# Altium schematic symbol library A_Connector.SchLib: 27 symbols
Pins are listed as number, name and electrical type; pins without a type are passive.

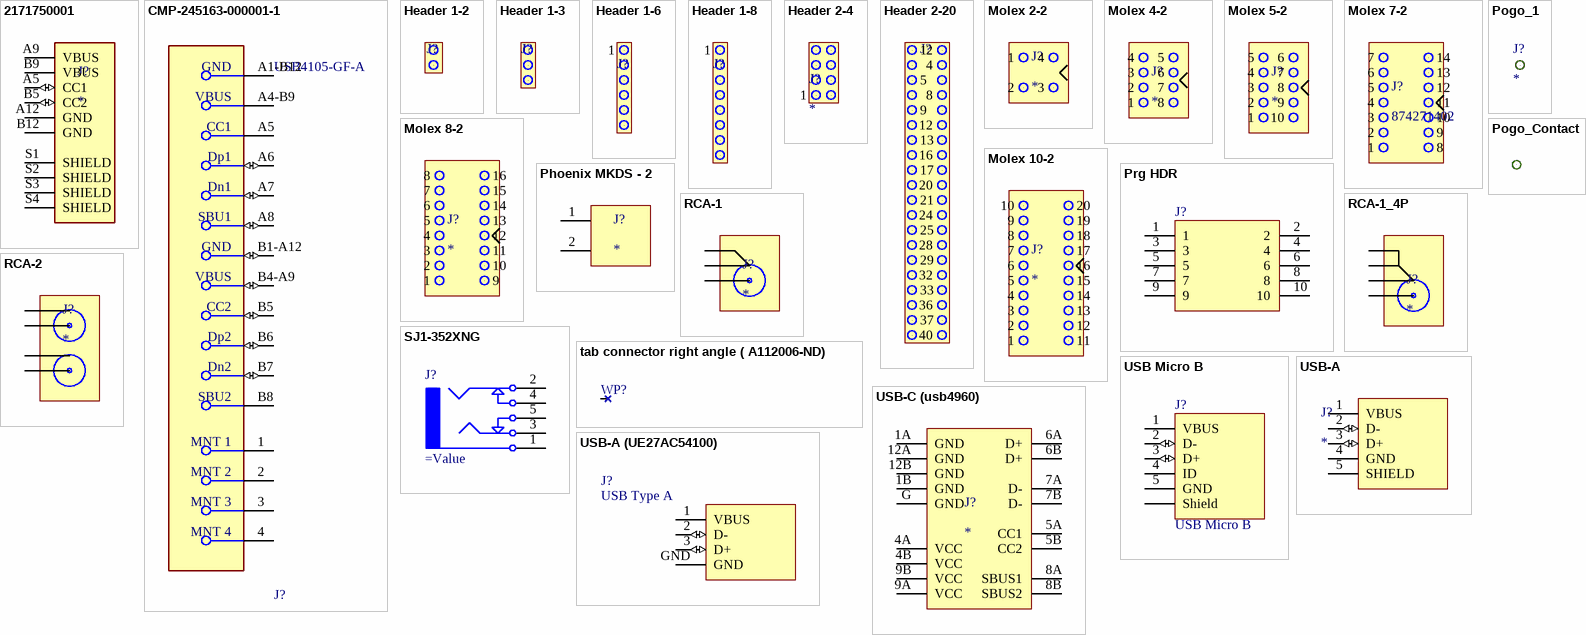
[diagram p0: symbols 2171750001 to USB-C (usb4960)]

## 2171750001
designator J?
USB-C (USB TYPE-C) USB 2.0 Receptacle Connector 24 (6+18 Dummy) Position Surface Mount, Right Angle; Through Hole; MF: Molex; MP: 2171750001; Availability: In Stock; Price: None; Package: None; SnapEDA_Link: https://www.snapeda.com/parts/2171750001/Molex/view-part/5817411/?ref=snap; Value: *; Check_prices: https://www.snapeda.com/parts/2171750001/Molex/view-part/5817411/?ref=eda; Purchase-URL: https://pricing.snapeda.com/search/part/2171750001/?ref=eda
footprint MOLEX_2171750001
pins: A5 CC1 (io), A9 VBUS (power), A12 GND (power), B5 CC2 (io), B9 VBUS (power), B12 GND (power), S1 SHIELD, S2 SHIELD, S3 SHIELD, S4 SHIELD

## CMP-245163-000001-1
designator J?, comment USB4105-GF-A
CONN RCPT USB2.0 TYPEC 5A; Manufacturer: GCT; Voltage Rating: 20V; Is Female: yes; Current Rating: 5/6.25/1.25/0.25A; Number Of Contacts: 16; Conn Orientation: Right Angle; Device Class L1: Connectors; Category: Conn; Lead Free: Yes; RoHS: TRUE; Temperature Range High: +85°C; Digikey Description: CONN RCPT USB2.0 TYPEC 5A; Device Class L3: unset; ComponentLink2Description: Datasheet; Manufacturer Part Number: USB4105-GF-A; Package: 0; Usb Standard: USB 2.0; Device Class L2: USB Connectors; Automotive: No; Temperature Range Low: -40°C; Height: 3.46mm; Temperature: -40°C to +85°C; Contact Material: Gold,Nickel; ComponentLink2URL: https://gct.co/files/drawings/usb4105.pdf; Octopart: https://octopart.com/usb4105-gf-a-gct-106627878
footprint FP-USB4105-GF-A-MFG
pins: 1 MNT 1 (power), 2 MNT 2 (power), 3 MNT 3 (power), 4 MNT 4 (power), A1-B12 GND (power), A4-B9 VBUS (power), A5 CC1 (power), A6 Dp1 (io), A7 Dn1 (io), A8 SBU1 (io), B1-A12 GND (io), B4-A9 VBUS (io), B5 CC2 (io), B6 Dp2 (io), B7 Dn2 (io), B8 SBU2 (power)

## Header 1-2
designator J?
footprint HDR1X2 VERT (Connector; Header; 2 Position)
footprint RCA-JCK-1 (RCA Phono Jack, Right Angle)
footprint SB50
pins: 1, 2

## Header 1-3
designator J?
Header, 3 Pin, 1.27mm Pitch, Vertical
footprint HDR1X3 VERT (Connector; Header; 3 Position; Vertical Mount)
footprint HDR1X3 VERT - S (Connector; Header; 3 Position; Vertical Mount)
footprint MOLEXMINIJR-3X1
pins: 1, 2, 3

## Header 1-6
designator J?
footprint HDR1X6 VERT - L (Connector; Header; 6 Position; Vertical Mount)
footprint HDR1X6 VERT - S (Connector; Header; 6 Position; Vertical Mount)
footprint HDR1X6 VERT - SL (Connector; Header; 6 Position; Vertical Mount)
footprint PhoenixContact_1984659
pins: 1, 2, 3, 4, 5, 6

## Header 1-8
designator J?
footprint HDR1X8 VERT (Connector; Header; 6 Position; Vertical Mount)
footprint 87437-0843
footprint PhoenixContact_1984675
pins: 1, 2, 3, 4, 5, 6, 7, 8

## Header 2-4
designator J?
footprint 20021321-00008
footprint 20021122-00008
pins: 1, 2, 3, 4, 5, 6, 7, 8

## Header 2-20
designator J?
footprint HDR2x20 VERT
pins: 1, 2, 3, 4, 5, 6, 7, 8, 9, 10, 11, 12, 13, 14, 15, 16, 17, 18, 19, 20, 21, 22, 23, 24, 25, 26, 27, 28, 29, 30, 31, 32, 33, 34, 35, 36, 37, 38, 39, 40

## Molex 2-2
designator J?
Value: *
footprint MolexMiniJr-2x2
pins: 1, 2, 3, 4

## Molex 4-2
designator J?
Value: *
footprint MOLEXMINIJR-4x2
pins: 1, 2, 3, 4, 5, 6, 7, 8

## Molex 5-2
designator J?
Value: *
footprint MOLEXMINIJR-5x2
pins: 1, 2, 3, 4, 5, 6, 7, 8, 9, 10

## Molex 7-2
designator J?, comment 874271402
Value: 874271402
footprint MOLEXMINIJR-7x2
pins: 1, 2, 3, 4, 5, 6, 7, 8, 9, 10, 11, 12, 13, 14

## Molex 8-2
designator J?
Value: *
footprint MOLEXMINIJR-8x2
pins: 1, 2, 3, 4, 5, 6, 7, 8, 9, 10, 11, 12, 13, 14, 15, 16

## Molex 10-2
designator J?
Value: *
footprint MOLEXMINIJR-10X2
pins: 1, 2, 3, 4, 5, 6, 7, 8, 9, 10, 11, 12, 13, 14, 15, 16, 17, 18, 19, 20

## Phoenix MKDS - 2
designator J?
footprint Phoenix MKDS - 2
pins: 1 Vss, 2 Vss

## Pogo_1
designator J?
footprint 0914-X-15-20-77-14-11-0
footprint PC5933-horizontal
pins: 1

## Pogo_Contact
designator JP?  (value not drawn)
footprint Pogo_254
footprint Smiths_100410-005
pins: 1

## Prg HDR
designator J?
Kicker Programming Header, Target-Side, 2x5 Pin, 2.54mm Pitch
footprint TC2050-IDC-NL (Tag-Connect 10-Pin Header no Legs)
pins: 1, 2, 3, 4, 5, 6, 7, 8, 9, 10

## RCA-1
designator J?
footprint RCJ-02X
pins: 1A 1, 1B 1, 2

## RCA-1_4P
designator J?
footprint RCJ-01X
pins: 1A 1, 1B 1, 1C 3, 2

## RCA-2
designator J?
footprint PJRAS2X1S01AUX
footprint AV2-8.4-10
pins: 1, 2, 3 1, 4 2

## SJ1-352XNG
designator J?
3.5mm TRS Phone Jack With Switches
footprint 3.5 audio barrel jack (SJ1-352XNG)
pins: 1, 2, 3, 4, 5

## tab connector right angle ( A112006-ND)
designator WP?, comment Wire Pad  (value not drawn)
Wire Pad, 1 Pin, Through Hole, Vertical
footprint TAB connector right angle
pins: 0

## USB Micro B
designator J?
Female Micro USB Type B
footprint USB-MICRO-B (10118194-0001LF) (Round Holes; USB - micro B USB 2.0 Receptacle Connector 5 Position Surface Mount, Right Angle, Horizontal)
footprint USB-MICRO-B (MCR-AB-S-RA-TSMT) (Round Holes; USB - micro B USB 2.0 Receptacle Connector 5 Position Surface Mount, Right Angle, Horizontal)
footprint USB-MICRO-B (a01sbxxxxxxx-470)
footprint USB-MICRO-B (A01SB141B1-298) (Round Holes; USB - micro B USB 2.0 Receptacle Connector 5 Position Surface Mount, Right Angle, Horizontal)
pins: 1 VBUS (power), 2 D- (io), 3 D+ (io), 4 ID, 5 GND (power), Shield

## USB-A
designator J?
footprint USB-A-VERT-RA (73725-0110BLF) (USB-A, Vertical, Through Hole, Right Angle)
pins: 1 VBUS (power), 2 D- (io), 3 D+ (io), 4 GND (power), 5 SHIELD (power)

## USB-A (UE27AC54100)
designator J?, comment USB Type A
Female USB Type A Connector
footprint USB-A-ThroughHole
pins: 1 VBUS (power), 2 D- (io), 3 D+ (io), GND (power)

## USB-C (usb4960)
designator J?
footprint usb4960
pins: 1A GND, 1B GND, 4A VCC, 4B VCC, 5A CC1, 5B CC2, 6A D+, 6B D+, 7A D-, 7B D-, 8A SBUS1, 8B SBUS2, 9A VCC, 9B VCC, 12A GND, 12B GND, G GND